# Altium schematic symbol library IGBT_modul_connector.SchLib: 1 symbol
Pins are listed as number, name and electrical type; pins without a type are passive.

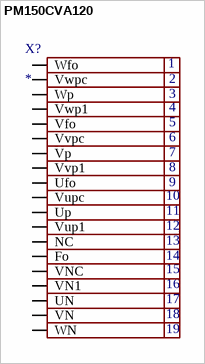
[diagram p0: symbol PM150CVA120]

## PM150CVA120
designator X?
footprint PM150CVA120 (Mitsubishi)
pins: 1 Wfo, 2 Vwpc, 3 Wp, 4 Vwp1, 5 Vfo, 6 Vvpc, 7 Vp, 8 Vvp1, 9 Ufo, 10 Vupc, 11 Up, 12 Vup1, 13 NC, 14 Fo, 15 VNC, 16 VN1, 17 UN, 18 VN, 19 WN